# Altium schematic symbol library SCH - POWER - SWITCHMODE - TI TPS62130_RGT_16.SchLib: 1 symbol
Pins are listed as number, name and electrical type; pins without a type are passive.

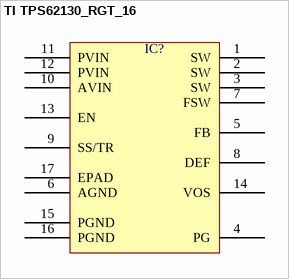
[diagram p0: symbol TI TPS62130_RGT_16]

## TI TPS62130_RGT_16
designator IC?  (value not drawn)
pins: 1 SW, 2 SW, 3 SW, 4 PG, 5 FB, 6 AGND, 7 FSW, 8 DEF, 9 SS/TR, 10 AVIN, 11 PVIN, 12 PVIN, 13 EN, 14 VOS, 15 PGND, 16 PGND, 17 EPAD